# Altium schematic symbol library passive_smd.SchLib: 86 symbols
Pins are listed as number, name and electrical type; pins without a type are passive.

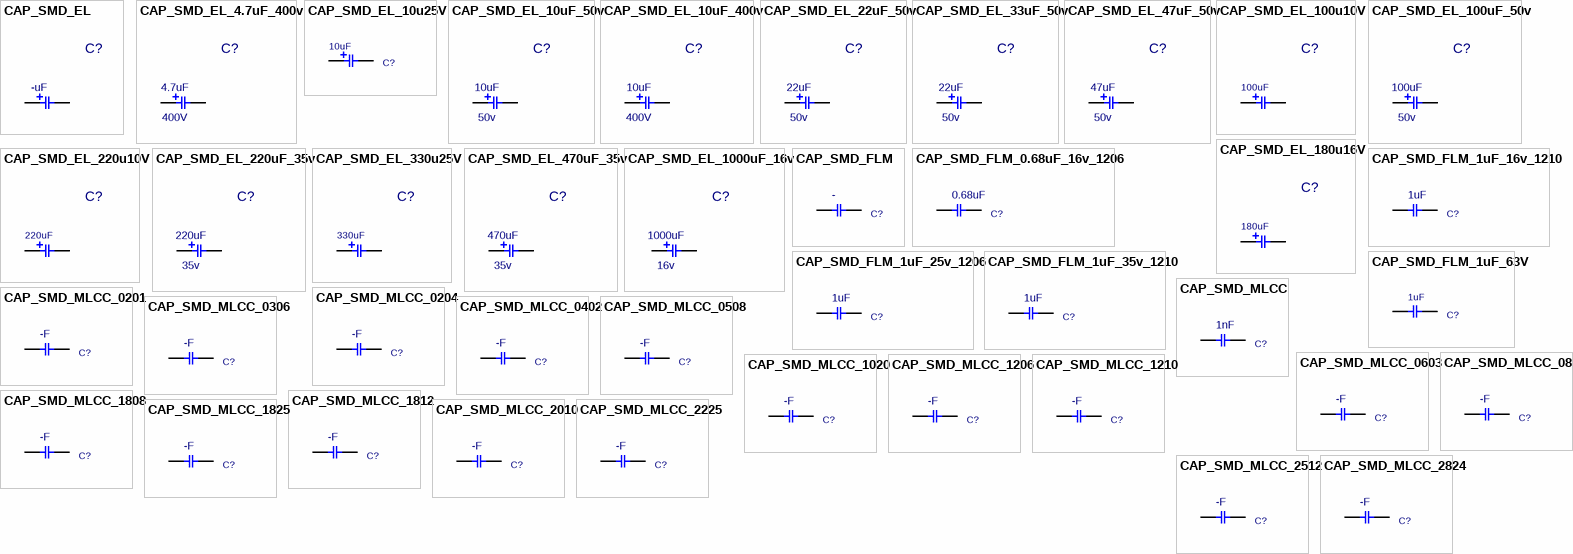
[diagram p0: symbols CAP_SMD_EL to CAP_SMD_MLCC_2824]

## CAP_SMD_EL
designator C?, comment -uF
CAP, SMD, ELEC,; MANF_P#: MANF_PART#; PARAM2: -V; DESC: DESCRIPTION; DIST#: MOUSER; PARAM: 20%; PRICE: 10= -$; MANF: MANF; ASSEMBLY: ASSEMBLY; VALUE: -uF
footprint C_EL_D8L6 (Electrolytic Cap, 8.3X6)
footprint C_EL_D4L4 (Electrolytic Cap, D: 4.3mm, Size B, 3.9mm Height)
footprint C_EL_D5L6 (Electrolytic Cap, D: 5.0mm, L: 5.8mm, Size C)
footprint C_EL_D6L5 (Electrolytic Cap, D: 6.3mm L: 5.4mm, Size D)
footprint C_EL_D10L9 (Electrolytic Cap, 10.3mm, L: 8.7mm)
footprint C_EL_D12L13 (Electrolytic Cap, 12.5x13mm)
footprint C_EL_D4L5 (Electrolytic Cap, D: 4.3mm, Size B, 5.5mm Height)
footprint C_EL_D3L5 (Electrolytic Cap, D: 3.3mm, Size A, 5mm Height)
footprint C_EL_D6L4 (Electrolytic Cap, D: 6.3mm L: 3.9mm, Size D)
footprint C_EL_D6L5A (Electrolytic Cap, D: 6.3mm L: 5.4mm, Size D)
footprint C_EL_D6L6 (Electrolytic Cap, D: 6.3mm L: 5.8mm, Size D)
footprint C_EL_D6L8 (Electrolytic Cap, D: 6.3mm L: 7.7mm, Size D)
footprint C_EL_D8L10 (Electrolytic Cap, Size E, Size F, 8.3X10)
footprint C_EL_D10L10 (Electrolytic Cap, 10.3mm, L: 10mm)
footprint C_EL_D10L12 (Electrolytic Cap, 10.3mm, L: 12.4mm)
footprint C_EL_D16L16 (Electrolytic Cap, 16x16.5mm, size J)
footprint C_EL_D18L16 (Electrolytic Cap, 18x16.5mm, size K)
footprint C_EL_D8L10A (Electrolytic Cap, Size E, Size F, 8.3X10)
footprint C_EL_D5L5 (Electrolytic Cap, D: 5.0mm, L: 5.4mm)
pins: 1, 2

## CAP_SMD_EL_4.7uF_400v
designator C?, comment PARAM2: 400V  (hidden comment: 4.7uF)
CAP, SMD, ELEC,; MANF_P#: MANF_PART#; DESC: DESCRIPTION; DIST#: MOUSER; PARAM: 20%; PRICE: 10= -$; MANF: MANF; ASSEMBLY: ASSEMBLY; VALUE: 4.7uF
footprint C_EL_D8L10 (Electrolytic Cap, Size E, Size F, 8.3X10)
footprint C_EL_D10L10 (Electrolytic Cap, 10.3mm, L: 10mm)
pins: 1, 2

## CAP_SMD_EL_10u25V
designator C?, comment 10uF
CAP, SMD, ELEC, 10uF, 25V; MANF_P#: MANF_PART#; PARAM: 25V; MANF: MANF; PARAM2: PARAM2; VALUE: 10uF
footprint C_EL_4X7 (Capacitor Electrolythic, D4.0X7.0H pitch: 1.5mm)
pins: 1, 2

## CAP_SMD_EL_10uF_50v
designator C?, comment PARAM2: 50v  (hidden comment: 10uF)
CAP, SMD, ELEC,; MANF_P#: MANF_PART#; DESC: DESCRIPTION; DIST#: MOUSER; PARAM: 20%; PRICE: 10= -$; MANF: MANF; ASSEMBLY: ASSEMBLY; VALUE: 10uF
footprint C_EL_D5L5 (Electrolytic Cap, D: 5.0mm, L: 5.4mm)
pins: 1, 2

## CAP_SMD_EL_10uF_400v
designator C?, comment PARAM2: 400V  (hidden comment: 10uF)
CAP, SMD, ELEC,; MANF_P#: MANF_PART#; DESC: DESCRIPTION; DIST#: MOUSER; PARAM: 20%; PRICE: 10= -$; MANF: MANF; ASSEMBLY: ASSEMBLY; VALUE: 10uF
footprint C_EL_D10L12 (Electrolytic Cap, 10.3mm, L: 12.4mm)
pins: 1, 2

## CAP_SMD_EL_22uF_50v
designator C?, comment PARAM2: 50v  (hidden comment: 22uF)
CAP, SMD, ELEC,; MANF_P#: MANF_PART#; DESC: DESCRIPTION; DIST#: MOUSER; PARAM: 20%; PRICE: 10= -$; MANF: MANF; ASSEMBLY: ASSEMBLY; VALUE: 22uF
footprint C_EL_D6L5 (Electrolytic Cap, D: 6.3mm L: 5.4mm, Size D)
pins: 1, 2

## CAP_SMD_EL_33uF_50v
designator C?, comment PARAM2: 50v  (hidden comment: 22uF)
CAP, SMD, ELEC,; MANF_P#: MANF_PART#; DESC: DESCRIPTION; DIST#: MOUSER; PARAM: 20%; PRICE: 10= -$; MANF: MANF; ASSEMBLY: ASSEMBLY; VALUE: 22uF
footprint C_EL_D6L8 (Electrolytic Cap, D: 6.3mm L: 7.7mm, Size D)
pins: 1, 2

## CAP_SMD_EL_47uF_50v
designator C?, comment PARAM2: 50v  (hidden comment: 47uF)
CAP, SMD, ELEC,; MANF_P#: MANF_PART#; DESC: DESCRIPTION; DIST#: MOUSER; PARAM: 20%; PRICE: 10= -$; MANF: MANF; ASSEMBLY: ASSEMBLY; VALUE: 47uF
footprint C_EL_D6L8 (Electrolytic Cap, D: 6.3mm L: 7.7mm, Size D)
pins: 1, 2

## CAP_SMD_EL_100u10V
designator C?, comment 100uF
CAP, SMDD, ELEC, 100uF, 10V; MANF_P#: 875105242010; MANF: Wurth Electronics; DESC: Aluminum Organic Polymer; DIST#: MOUSER; PARAM: 20%, 30mOhmESR, -55~105oC; PRICE: 0.56$; PARAM2: 10V; ASSEMBLY: ASSEMBLY; VALUE: 100uF
footprint C_EL_5 (Electrolytic Cap, D: 5.0mm, L: 5.8mm, Size C)
pins: 1, 2

## CAP_SMD_EL_100uF_50v
designator C?, comment PARAM2: 50v  (hidden comment: 100uF)
CAP, SMD, ELEC,; MANF_P#: MANF_PART#; DESC: DESCRIPTION; DIST#: MOUSER; PARAM: 20%; PRICE: 10= -$; MANF: MANF; ASSEMBLY: ASSEMBLY; VALUE: 100uF
footprint C_EL_D8L10 (Electrolytic Cap, Size E, Size F, 8.3X10)
pins: 1, 2

## CAP_SMD_EL_180u16V
designator C?, comment 180uF
CAP, SMD, ELEC,; MANF_P#: 16SVPE180M; PARAM2: 16V; MANF: Panasonic; DESC: Aluminum Organic Polymer; DIST#: MOUSER; PARAM: 20%, 11mOhmESR, -55~105oC; PRICE: 0.8$; ASSEMBLY: ASSEMBLY; VALUE: 180uF
footprint C_EL_6_8 (Electrolytic Cap, D: 6.3mm L: 7.7mm, Size D)
pins: 1, 2

## CAP_SMD_EL_220u10V
designator C?, comment 220uF
CAP, SMDD, ELEC, 220uF, 10V; MANF_P#: 875105244013; MANF: Wurth Electronics; DESC: Aluminum Organic Polymer; DIST#: MOUSER; PARAM: 20%, 30mOhmESR, -55~105oC; PRICE: 0.66$; PARAM2: 10V; ASSEMBLY: ASSEMBLY; VALUE: 220uF
footprint C_EL_6_6 (Electrolytic Cap, D: 6.3mm L: 5.8mm, Size D)
pins: 1, 2

## CAP_SMD_EL_220uF_35v
designator C?, comment PARAM2: 35v  (hidden comment: 220uF)
CAP, SMD, ELEC,; MANF_P#: MANF_PART#; DESC: DESCRIPTION; DIST#: MOUSER; PARAM: 20%; PRICE: 10= -$; MANF: MANF; ASSEMBLY: ASSEMBLY; VALUE: 220uF
footprint C_EL_D8L10 (Electrolytic Cap, Size E, Size F, 8.3X10)
pins: 1, 2

## CAP_SMD_EL_330u25V
designator C?, comment 330uF
CAP, SMDD, ELEC, 330uF, 25V; MANF_P#: EEE-1EA331UP; PARAM2: 20%; MANF: PANASONIC; DESC: DESCRIPTION; DIST#: MOUSER; PRICE: 10= 5$; ASSEMBLY: ASSEMBLY; PARAM: 25V; VALUE: 330uF
footprint C_EL_8 (Electrolytic Capacitor, Size E, Size F, 8X10)
pins: 1, 2

## CAP_SMD_EL_470uF_35v
designator C?, comment PARAM2: 35v  (hidden comment: 470uF)
CAP, SMD, ELEC,; MANF_P#: MANF_PART#; DESC: DESCRIPTION; DIST#: MOUSER; PARAM: 20%; PRICE: 10= -$; MANF: MANF; ASSEMBLY: ASSEMBLY; VALUE: 470uF
footprint C_EL_D10L10 (Electrolytic Cap, 10.3mm, L: 10mm)
pins: 1, 2

## CAP_SMD_EL_1000uF_16v
designator C?, comment PARAM2: 16v  (hidden comment: 1000uF)
CAP, SMD, ELEC,; MANF_P#: MANF_PART#; DESC: DESCRIPTION; DIST#: MOUSER; PARAM: 20%; PRICE: 10= -$; MANF: MANF; ASSEMBLY: ASSEMBLY; VALUE: 1000uF
footprint C_EL_D10L10 (Electrolytic Cap, 10.3mm, L: 10mm)
pins: 1, 2

## CAP_SMD_FLM
designator C?, comment -
CAP, FILM,; PARAM: Acrylic, MetallizedStacked, 20%, -40~85oC; MANF_P#: ECP-U1C684MA5; MANF: Panasonic; PARAM2: 16V; PRICE: 100= 40$; DESC: -; ASSEMBLY: ASSEMBLY; VALUE: -
footprint C1206 (CHIP Capacitor, 3.2X1.6mm, 1206)
pins: 1, 2

## CAP_SMD_FLM_0.68uF_16v_1206
designator C?, comment 0.68uF
CAP, FILM,; PARAM: Acrylic, MetallizedStacked, 20%, -40~85oC; MANF_P#: ECP-U1C684MA5; MANF: Panasonic; PARAM2: 16V; PRICE: 100= 40$; DESC: -; ASSEMBLY: ASSEMBLY; VALUE: 0.68uF
footprint C1206 (CHIP Capacitor, 3.2X1.6mm, 1206)
pins: 1, 2

## CAP_SMD_FLM_1uF_16v_1210
designator C?, comment 1uF
CAP, FILM,; PARAM: Acrylic, MetallizedStacked, 20%, -40~85oC; MANF_P#: ECP-U1C105MA5; MANF: Panasonic; PARAM2: 16V; PRICE: 100= 36$; DESC: -; ASSEMBLY: ASSEMBLY; VALUE: 1uF
footprint C1210 (CHIP Capacitor, 3.2X2.5mm, 1210, 3225)
pins: 1, 2

## CAP_SMD_FLM_1uF_25v_1206
designator C?, comment 1uF
CAP, FILM,; PARAM: AcrylicMetallized, 20%, -55~125oC; MANF_P#: 25MU105MA23216; MANF: Rubycon; PARAM2: 25V; PRICE: 100= 290$; DESC: -; ASSEMBLY: ASSEMBLY; VALUE: 1uF
footprint C1206 (CHIP Capacitor, 3.2X1.6mm, 1206)
pins: 1, 2

## CAP_SMD_FLM_1uF_35v_1210
designator C?, comment 1uF
CAP, FILM,; PARAM: AcrylicMetallized, 20%, -55~125oC; MANF_P#: 35ST105MB13225; MANF: Rubycon; PARAM2: 35V; PRICE: 100= 270$; DESC: -; ASSEMBLY: ASSEMBLY; VALUE: 1uF
footprint C1210 (CHIP Capacitor, 3.2X2.5mm, 1210, 3225)
pins: 1, 2

## CAP_SMD_FLM_1uF_63V
designator C?, comment 1uF
CAP, FILM; PARAM: PET, 10%, -55~125oC; DESC: CAP, FILM,; MANF_P#: SMDTC04100QB00KQ00; MANF: WIMA; PARAM2: 63VDC/40VAC; PRICE: 2$; ASSEMBLY: ASSEMBLY; VALUE: 1uF
footprint C2225 (Chip Capacitor, 5.6x6.4mm, 2225, 5664, 2220)
pins: 1, 2

## CAP_SMD_MLCC
designator C?, comment 1nF
CAP, MLCC; PARAM: C0G, 10%; DESC: CAP, MLCC, 1nF, 50V, C0G, 10%, 0402; MANF_P#: MANF_PART#; MANF: Murata; PARAM2: 50V; PRICE: 100= 1$; ASSEMBLY: ASSEMBLY; VALUE: 1nF
footprint C0402 (CHIP Capacitor, 1.0X0.5mm, 0402)
footprint C0603 (CHIP Capacitor, 1.6X0.8mm, 0603)
footprint C0805 (CHIP Capacitor, 2.0X1.3mm, 0805)
footprint C1206 (CHIP Capacitor, 3.2X1.6mm, 1206)
footprint C1210 (CHIP Capacitor, 3.2X2.5mm, 1210, 3225)
footprint C0508 (CHIP Capacitor, 1.3X2.0mm, 0508)
footprint C1020 (CHIP Capacitor, 2.50x5.00mm)
footprint C1808 (CHIP Capacitor, 4.6X2.0mm, 1808, 1806, 4620, 4520)
footprint C1812 (Chip Capacitor, 4.5x3.2mm, 1612, 1812, 4532)
footprint C1825 (Chip Capacitor, 4.5x6.4mm, 1825, 4564)
footprint C2225 (Chip Capacitor, 5.6x6.4mm, 2225, 5664)
footprint C2512 (Chip Capacitor, 6.4x3.2mm, 2512, 6432)
footprint C0201 (CHIP Capacitor, 0.5x0.25mm, 0201)
footprint C0306 (CHIP Capacitor, 0.8X1.6mm)
footprint C0204 (CHIP Capacitor, 0.5X1.0mm)
footprint C2010 (Chip Capacitor, 5.0x2.5mm)
pins: 1, 2

## CAP_SMD_MLCC_0201
designator C?, comment -F
CAP, MLCC; PARAM: -, -%; MANF_P#: MANF_PART#; PARAM2: -V; PRICE: 100= 1$; MANF: -; ASSEMBLY: ASSEMBLY; VALUE: -F; PACKAGE: 0201
footprint C0201 (CHIP Capacitor, 0.5x0.25mm, 0201)
pins: 1, 2

## CAP_SMD_MLCC_0204
designator C?, comment -F
CAP, MLCC; PARAM: -, -%; MANF_P#: MANF_PART#; PARAM2: -V; PRICE: 100= 1$; MANF: -; ASSEMBLY: ASSEMBLY; VALUE: -F; PACKAGE: 0204
footprint C0204 (CHIP Capacitor, 0.5X1.0mm)
pins: 1, 2

## CAP_SMD_MLCC_0306
designator C?, comment -F
CAP, MLCC; PARAM: -, -%; MANF_P#: MANF_PART#; PARAM2: -V; PRICE: 100= 1$; MANF: -; ASSEMBLY: ASSEMBLY; VALUE: -F; PACKAGE: 0306
footprint C0306 (CHIP Capacitor, 0.8X1.6mm)
pins: 1, 2

## CAP_SMD_MLCC_0402
designator C?, comment -F
CAP, MLCC; PARAM: -, -%; MANF_P#: MANF_PART#; PARAM2: -V; PRICE: 100= 1$; MANF: -; ASSEMBLY: ASSEMBLY; VALUE: -F; PACKAGE: 0402
footprint C0402 (CHIP Capacitor, 1.0X0.5mm, 0402)
pins: 1, 2

## CAP_SMD_MLCC_0508
designator C?, comment -F
CAP, MLCC; PARAM: -, -%; MANF_P#: MANF_PART#; PARAM2: -V; PRICE: 100= 1$; MANF: -; ASSEMBLY: ASSEMBLY; VALUE: -F; PACKAGE: 0508
footprint C0508 (CHIP Capacitor, 1.3X2.0mm, 0508)
pins: 1, 2

## CAP_SMD_MLCC_0603
designator C?, comment -F
CAP, MLCC; PARAM: -, -%; MANF_P#: MANF_PART#; PARAM2: -V; PRICE: 100= 1$; MANF: -; ASSEMBLY: ASSEMBLY; VALUE: -F; PACKAGE: 0603
footprint C0603 (CHIP Capacitor, 1.6X0.8mm, 0603)
pins: 1, 2

## CAP_SMD_MLCC_0805
designator C?, comment -F
CAP, MLCC; PARAM: -, -%; MANF_P#: MANF_PART#; PARAM2: -V; PRICE: 100= 1$; MANF: -; ASSEMBLY: ASSEMBLY; VALUE: -F; PACKAGE: 0805
footprint C0805 (CHIP Capacitor, 2.0X1.3mm, 0805)
pins: 1, 2

## CAP_SMD_MLCC_1020
designator C?, comment -F
CAP, MLCC; PARAM: -, -%; MANF_P#: MANF_PART#; PARAM2: -V; PRICE: 100= 1$; MANF: -; ASSEMBLY: ASSEMBLY; VALUE: -F; PACKAGE: 1020
footprint C1020 (CHIP Capacitor, 2.50x5.00mm)
pins: 1, 2

## CAP_SMD_MLCC_1206
designator C?, comment -F
CAP, MLCC; PARAM: -, -%; MANF_P#: MANF_PART#; PARAM2: -V; PRICE: 100= 1$; MANF: -; ASSEMBLY: ASSEMBLY; VALUE: -F; PACKAGE: 1206
footprint C1206 (CHIP Capacitor, 3.2X1.6mm, 1206)
pins: 1, 2

## CAP_SMD_MLCC_1210
designator C?, comment -F
CAP, MLCC; PARAM: -, -%; MANF_P#: MANF_PART#; PARAM2: -V; PRICE: 100= 1$; MANF: -; ASSEMBLY: ASSEMBLY; VALUE: -F; PACKAGE: 1210
footprint C1210 (CHIP Capacitor, 3.2X2.5mm, 1210, 3225)
pins: 1, 2

## CAP_SMD_MLCC_1808
designator C?, comment -F
CAP, MLCC; PARAM: -, -%; MANF_P#: MANF_PART#; PARAM2: -V; PRICE: 100= 1$; MANF: -; ASSEMBLY: ASSEMBLY; VALUE: -F; PACKAGE: 1808
footprint C1808 (CHIP Capacitor, 4.6X2.0mm, 1808, 1806, 4620, 4520)
pins: 1, 2

## CAP_SMD_MLCC_1812
designator C?, comment -F
CAP, MLCC; PARAM: -, -%; MANF_P#: MANF_PART#; PARAM2: -V; PRICE: 100= 1$; MANF: -; ASSEMBLY: ASSEMBLY; VALUE: -F; PACKAGE: 1812
footprint C1812 (Chip Capacitor, 4.5x3.2mm, 1612, 1812, 4532)
pins: 1, 2

## CAP_SMD_MLCC_1825
designator C?, comment -F
CAP, MLCC; PARAM: -, -%; MANF_P#: MANF_PART#; PARAM2: -V; PRICE: 100= 1$; MANF: -; ASSEMBLY: ASSEMBLY; VALUE: -F; PACKAGE: 1825
footprint C1825 (Chip Capacitor, 4.5x6.4mm, 1825, 4564)
pins: 1, 2

## CAP_SMD_MLCC_2010
designator C?, comment -F
CAP, MLCC; PARAM: -, -%; MANF_P#: MANF_PART#; PARAM2: -V; PRICE: 100= 1$; MANF: -; ASSEMBLY: ASSEMBLY; VALUE: -F; PACKAGE: 2010
footprint C2010 (Chip Capacitor, 5.0x2.5mm)
pins: 1, 2

## CAP_SMD_MLCC_2225
designator C?, comment -F
CAP, MLCC; PARAM: -, -%; MANF_P#: MANF_PART#; PARAM2: -V; PRICE: 100= 1$; MANF: -; ASSEMBLY: ASSEMBLY; VALUE: -F; PACKAGE: 2225
footprint C2225 (Chip Capacitor, 5.6x6.4mm, 2225, 5664, 2220)
pins: 1, 2

## CAP_SMD_MLCC_2512
designator C?, comment -F
CAP, MLCC; PARAM: -, -%; MANF_P#: MANF_PART#; PARAM2: -V; PRICE: 100= 1$; MANF: -; ASSEMBLY: ASSEMBLY; VALUE: -F; PACKAGE: 2512
footprint C2512 (Chip Capacitor, 6.4x3.2mm, 2512, 6432)
pins: 1, 2

## CAP_SMD_MLCC_2824
designator C?, comment -F
CAP, MLCC; PARAM: -, -%; MANF_P#: MANF_PART#; PARAM2: -V; PRICE: 100= 1$; MANF: -; ASSEMBLY: ASSEMBLY; VALUE: -F; PACKAGE: 2824
footprint C2824 (Chip Capacitor, 7.2x6.1x3mm, 2824)
pins: 1, 2

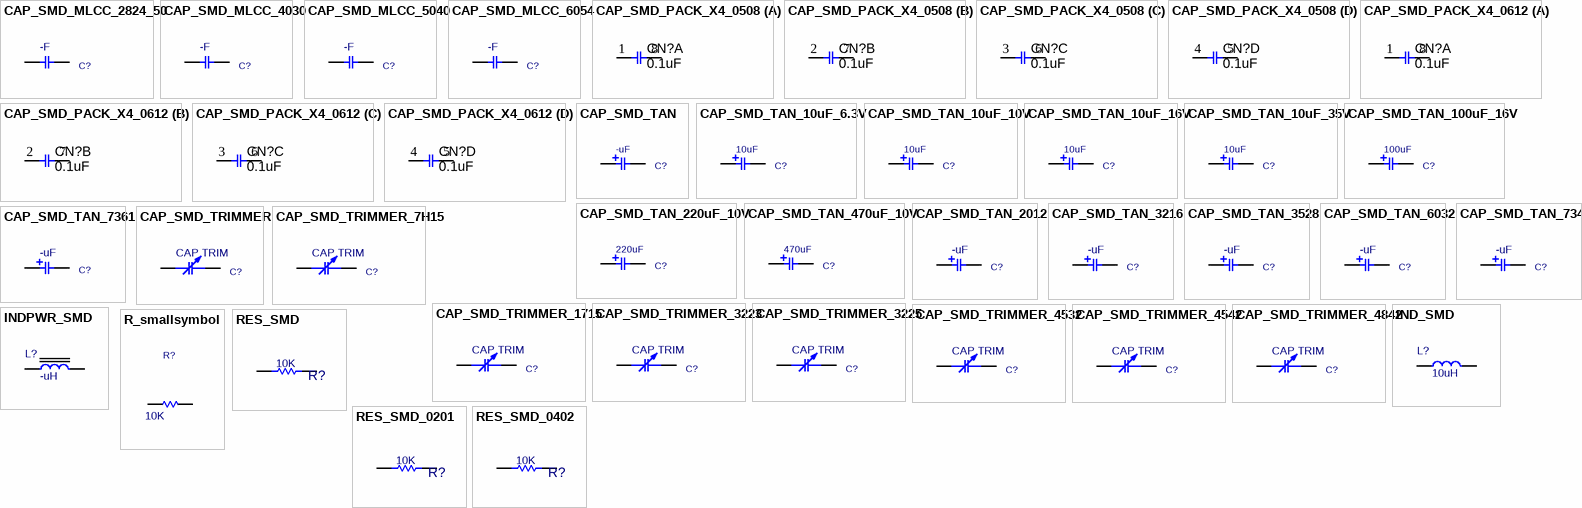
[diagram p1: symbols CAP_SMD_MLCC_2824_50 to RES_SMD_0402]

## CAP_SMD_MLCC_2824_50
designator C?, comment -F
CAP, MLCC; PARAM: -, -%; MANF_P#: MANF_PART#; PARAM2: -V; PRICE: 100= 1$; MANF: -; ASSEMBLY: ASSEMBLY; PACKAGE: 2824_5mm height; VALUE: -F
footprint C2824_50 (Chip Capacitor, 7.2x6.1x5mm, 2824)
pins: 1, 2

## CAP_SMD_MLCC_4030
designator C?, comment -F
CAP, MLCC; PARAM: -, -%; MANF_P#: MANF_PART#; PARAM2: -V; PRICE: 100= 1$; MANF: -; ASSEMBLY: ASSEMBLY; VALUE: -F; PACKAGE: 4030
footprint C4030 (Chip Capacitor, 10.2x7.6x5mm, 4030)
pins: 1, 2

## CAP_SMD_MLCC_5040
designator C?, comment -F
CAP, MLCC; PARAM: -, -%; MANF_P#: MANF_PART#; PARAM2: -V; PRICE: 100= 1$; MANF: -; ASSEMBLY: ASSEMBLY; VALUE: -F; PACKAGE: 5040
footprint C5040 (Chip Capacitor, 12.7x10.2x6mm, 5040)
pins: 1, 2

## CAP_SMD_MLCC_6054
designator C?, comment -F
CAP, MLCC; PARAM: -, -%; MANF_P#: MANF_PART#; PARAM2: -V; PRICE: 100= 1$; MANF: -; ASSEMBLY: ASSEMBLY; VALUE: -F; PACKAGE: 6054
footprint C6054 (Chip Capacitor, 15.3x13.7x7mm, 6054)
pins: 1, 2

## CAP_SMD_PACK_X4_0508
designator CN?, comment value 0.1uF  (hidden comment: Film Res Pack)
CAP, SMD, PACKX4; MANF_P#: MANF_PART#; MANF: MANF
footprint CP0402X4 (Capacitor Network, 0508, 0402X4, 1.3x2.0mm)
part A pins: 1, 8
part B pins: 2, 7
part C pins: 3, 6
part D pins: 4, 5

## CAP_SMD_PACK_X4_0612
designator CN?, comment value 0.1uF  (hidden comment: Film Res Pack)
CAP, SMD, PACKX4; MANF_P#: MANF_PART#; MANF: MANF
footprint CP0603X4 (Capacitor Network 0612, 0603X4, 1.6x3.2mm)
part A pins: 1, 8
part B pins: 2, 7
part C pins: 3, 6
part D pins: 4, 5

## CAP_SMD_TAN
designator C?, comment -uF
CAP, SMD, TAN; PARAM: 20%, 300mOhm, -55~105oC; MANF: VISHAY; MANF_P#: T55A106M6R3C0300; PARAM2: 6.3V; PRICE: 0.46$; VALUE: -uF
footprint C_TN_3528 (CAPACITOR, TAN B, TAN H, TAN T, TAN M, 3528P, 1210P, 3.5X2.8mm)
footprint C_TN_3216 (CAPACITOR, TAN A, 1206P, 3.2x1.6mm)
footprint C_TN_2012 (CAPACITOR, TAN N, TAN P, TAN R, 0805P, 2X1.3mm)
footprint C_TN_3216_BLK (CAPACITOR, TAN A, 3.2x1.6mm, BLACK)
footprint C_TN_3528_BLK (CAPACITOR, TAN B, 3.5X2.8mm, BLACK)
footprint C_TN_6032 (CAPACITOR, TAN C, TAN F, TAN U, TAN L, 6032P, 6.0X3.2mm)
footprint C_TN_6032_BLK (CAPACITOR, TAN C, 6.0X3.2mm, BLACK)
footprint C_TN_7343 (CAPACITOR, TAN D, TAN E, TAN Y, TAN X, 7343P, 7.3X4.3mm)
footprint C_TN_7343_31 (CAPACITOR, TAN D, TAN E, TAN Y, TAN X, 7343P, 7.3X4.3mm)
footprint C_TN_7343_31_BLK (CAPACITOR, TAN D, 7.3X4.3mm, BLACK)
footprint C_TN_7361 (CAPACITOR, TAN V, 2924, 7361, 7.3X6.1mm)
pins: 1, 2

## CAP_SMD_TAN_10uF_6.3V
designator C?, comment 10uF
CAP, SMD, TAN; PARAM: 20%, 300mOhm, -55~105oC; MANF: VISHAY; MANF_P#: T55A106M6R3C0300; PARAM2: 6.3V; PRICE: 0.46$; VALUE: 10uF
footprint C_TN_3216 (CAPACITOR, TAN A, 1206P, 3.2x1.6mm)
pins: 1, 2

## CAP_SMD_TAN_10uF_10V
designator C?, comment 10uF
CAP, SMD, TAN; PARAM: 20%, 300mOhm, -55~105oC; MANF: VISHAY; MANF_P#: T55A106M010C0300; PARAM2: 10V; PRICE: 0.46$; VALUE: 10uF
footprint C_TN_3216 (CAPACITOR, TAN A, 1206P, 3.2x1.6mm)
pins: 1, 2

## CAP_SMD_TAN_10uF_16V
designator C?, comment 10uF
CAP, SMD, TAN; PARAM: 20%, 200mOhm, -55~105oC; MANF: AVX; MANF_P#: TCJT106M016R0200; PARAM2: 16V; PRICE: 1$; VALUE: 10uF
footprint C_TN_3528 (CAPACITOR, TAN B, TAN H, TAN T, TAN M, 3528P, 1210P, 3.5X2.8mm)
pins: 1, 2

## CAP_SMD_TAN_10uF_35V
designator C?, comment 10uF
CAP, SMD, TAN; PARAM: 20%, 300mOhm, -55~125oC; MANF: VISHAY; MANF_P#: 593D106X9035D2TE3; PARAM2: 35V; PRICE: 0.8$; VALUE: 10uF
footprint C_TN_7343 (CAPACITOR, TAN D, TAN E, TAN Y, TAN X, 7343P, 7.3X4.3mm)
pins: 1, 2

## CAP_SMD_TAN_100uF_16V
designator C?, comment 100uF
CAP, SMD, TAN; PARAM: 20%, 50mOhm, -55~105oC; MANF: AVX; MANF_P#: TCJD107M016R0050; PARAM2: 16V; PRICE: 1.9$; VALUE: 100uF
footprint C_TN_7343 (CAPACITOR, TAN D, TAN E, TAN Y, TAN X, 7343P, 7.3X4.3mm)
pins: 1, 2

## CAP_SMD_TAN_220uF_10V
designator C?, comment 220uF
CAP, SMD, TAN; PARAM: 20%, 35mOhm, -55~105oC; MANF: VISHAY; MANF_P#: T55D227M6R3C0035; PARAM2: 6.3V; PRICE: 1.9$; VALUE: 220uF
footprint C_TN_7343 (CAPACITOR, TAN D, TAN E, TAN Y, TAN X, 7343P, 7.3X4.3mm)
pins: 1, 2

## CAP_SMD_TAN_470uF_10V
designator C?, comment 470uF
CAP, SMD, TAN; PARAM: 20%, 50mOhm, -55~105oC; MANF: AVX; MANF_P#: TCN4477M016R0100; PARAM2: 16V; PRICE: 4$; VALUE: 470uF
footprint C_TN_7343 (CAPACITOR, TAN D, TAN E, TAN Y, TAN X, 7343P, 7.3X4.3mm)
pins: 1, 2

## CAP_SMD_TAN_2012
designator C?, comment -uF
CAP, SMD, TAN,; PARAM2: -V; VALUE: -uF; PACKAGE: 2012
footprint C_TN_2012 (CAPACITOR, TAN N, TAN P, TAN R, 0805P, 2X1.3mm)
pins: 1, 2

## CAP_SMD_TAN_3216
designator C?, comment -uF
CAP, SMD, TAN,; PARAM2: -V; VALUE: -uF; PACKAGE: 3216
footprint C_TN_3216 (CAPACITOR, TAN A, 1206P, 3.2x1.6mm)
pins: 1, 2

## CAP_SMD_TAN_3528
designator C?, comment -uF
CAP, SMD, TAN,; PARAM2: -V; VALUE: -uF; PACKAGE: 3528
footprint C_TN_3528 (CAPACITOR, TAN B, TAN H, TAN T, TAN M, 3528P, 1210P, 3.5X2.8mm)
pins: 1, 2

## CAP_SMD_TAN_6032
designator C?, comment -uF
CAP, SMD, TAN,; PARAM2: -V; VALUE: -uF; PACKAGE: 6032
footprint C_TN_6032 (CAPACITOR, TAN C, TAN F, TAN U, TAN L, 6032P, 6.0X3.2mm)
pins: 1, 2

## CAP_SMD_TAN_7343
designator C?, comment -uF
CAP, SMD, TAN,; PARAM2: -V; VALUE: -uF; PACKAGE: 7343
footprint C_TN_7343 (CAPACITOR, TAN D, TAN E, TAN Y, TAN X, 7343P, 7.3X4.3mm)
pins: 1, 2

## CAP_SMD_TAN_7361
designator C?, comment -uF
CAP, SMD, TAN,; PARAM2: -V; VALUE: -uF; PACKAGE: 7361
footprint C_TN_7361 (CAPACITOR, TAN V, 2924, 7361, 7.3X6.1mm)
pins: 1, 2

## CAP_SMD_TRIMMER
designator C?, comment CAP TRIM
CAP, SMD, TRIMMER; MANF_P#: MANF_PART#; PARAM: PARAM; PRICE: 100= 1$; DESC: CAP, SMD, TRIMMER; MANF: MANF; PARAM2: PARAM2; ASSEMBLY: ASSEMBLY; VALUE: CAP TRIM
footprint C_TRM_1715 (Cap, Trimmer TZR1 1.7mmX1.5mm)
footprint C_TRM_3225 (Cap, Trimmer TZY2 3.2mmX2.5mm)
footprint C_TRM_4532 (Cap, Trimmer TZC3 4.5X3.2mm)
footprint C_TRM_4842 (Cap, Trimmer SMD 4.8x4.2mm)
footprint C_TRM_3223 (Cap, Trimmer TZV2 2.3mmX3.2mm)
footprint C_TRM_4542 (Cap, Trimmer TZB4 4.5X4.2mm)
footprint C_TRM_7H15 (Cap Air, Trimmer JOHANSON 1585, >8 Turn, 7.1x H 14.8mm)
pins: 1, 2

## CAP_SMD_TRIMMER_7H15
designator C?, comment CAP TRIM
CAP, SMD, TRIMMER; MANF_P#: MANF_PART#; PARAM: PARAM; PRICE: 100= 1$; DESC: CAP, SMD, TRIMMER; MANF: MANF; PARAM2: PARAM2; ASSEMBLY: ASSEMBLY; VALUE: CAP TRIM
footprint C_TRM_7H15 (Cap Air, Trimmer JOHANSON 1585, >8 Turn, 7.1x H 14.8mm)
pins: 1, 2

## CAP_SMD_TRIMMER_1715
designator C?, comment CAP TRIM
CAP, SMD, TRIMMER; MANF_P#: MANF_PART#; PARAM: PARAM; PRICE: 100= 1$; DESC: CAP, SMD, TRIMMER; MANF: MANF; PARAM2: PARAM2; ASSEMBLY: ASSEMBLY; VALUE: CAP TRIM
footprint C_TRM_1715 (Cap, Trimmer TZR1 1.7mmX1.5mm)
pins: 1, 2

## CAP_SMD_TRIMMER_3223
designator C?, comment CAP TRIM
CAP, SMD, TRIMMER; MANF_P#: MANF_PART#; PARAM: PARAM; PRICE: 100= 1$; DESC: CAP, SMD, TRIMMER; MANF: MANF; PARAM2: PARAM2; ASSEMBLY: ASSEMBLY; VALUE: CAP TRIM
footprint C_TRM_3223 (Cap, Trimmer TZV2 2.3mmX3.2mm)
pins: 1, 2

## CAP_SMD_TRIMMER_3225
designator C?, comment CAP TRIM
CAP, SMD, TRIMMER; MANF_P#: MANF_PART#; PARAM: PARAM; PRICE: 100= 1$; DESC: CAP, SMD, TRIMMER; MANF: MANF; PARAM2: PARAM2; ASSEMBLY: ASSEMBLY; VALUE: CAP TRIM
footprint C_TRM_3225 (Cap, Trimmer TZY2 3.2mmX2.5mm)
pins: 1, 2

## CAP_SMD_TRIMMER_4532
designator C?, comment CAP TRIM
CAP, SMD, TRIMMER; MANF_P#: MANF_PART#; PARAM: PARAM; PRICE: 100= 1$; DESC: CAP, SMD, TRIMMER; MANF: MANF; PARAM2: PARAM2; ASSEMBLY: ASSEMBLY; VALUE: CAP TRIM
footprint C_TRM_4532 (Cap, Trimmer TZC3 4.5X3.2mm)
pins: 1, 2

## CAP_SMD_TRIMMER_4542
designator C?, comment CAP TRIM
CAP, SMD, TRIMMER; MANF_P#: MANF_PART#; PARAM: PARAM; PRICE: 100= 1$; DESC: CAP, SMD, TRIMMER; MANF: MANF; PARAM2: PARAM2; ASSEMBLY: ASSEMBLY; VALUE: CAP TRIM
footprint C_TRM_4542 (Cap, Trimmer TZB4 4.5X4.2mm)
pins: 1, 2

## CAP_SMD_TRIMMER_4842
designator C?, comment CAP TRIM
CAP, SMD, TRIMMER; MANF_P#: MANF_PART#; PARAM: PARAM; PRICE: 100= 1$; DESC: CAP, SMD, TRIMMER; MANF: MANF; PARAM2: PARAM2; ASSEMBLY: ASSEMBLY; VALUE: CAP TRIM
footprint C_TRM_4842 (Cap, Trimmer SMD 4.8x4.2mm)
pins: 1, 2

## IND_SMD
designator L?, comment 10uH
INDUCTOR, SMD; VALUE: 10uH
footprint L0603 (INDUCTOR, FERRITE BEAD, 0603, 1.6X0.8mm)
pins: 1, 2

## INDPWR_SMD
designator L?, comment -uH
INDUCTOR, POWER, SMD; VALUE: -uH
footprint L_12 (INDUCTOR, 13.5x12.5mm, DR125, CDRH127, D128C 931AS)
footprint L_3 (INDUCTOR, 3.0X3.2mm, VLS3012)
footprint L_4 (INDUCTOR, 3.8x3.8mm, 3.7x3.5mm, WURTH 744031470)
footprint L_5 (INDUCTOR, 5.0X5.0mm)
footprint L_6 (INDUCTOR, 6.0X6.0mm)
footprint L_7 (INDUCTOR, 7.2X6.9mm, 7.1X6.5mm, SPM6530)
footprint L_8 (INDUCTOR, 7.5X7.5mm, 8x8, DR74)
footprint L_10 (INDUCTOR, 10.35X10.35mm, CDRH104R, MSS1038 (coilcraft))
footprint L_2 (INDUCTOR, 2.0X2.0mm)
footprint L1007 (INDUCTOR, 2518 [1007], 2.5X1.8mm)
footprint L1008 (INDUCTOR, 2520 1008, 2.5X2.0mm)
footprint L_5_CD54 (INDUCTOR, 5.2x5.8x4.5mm)
pins: 1, 2

## R_smallsymbol
designator R?, comment 10K
VALUE: 10K
pins: 1, 2

## RES_SMD
designator R?, comment 10K
RESISTOR, SMD; PARAM: -W; DESC: DESCRIPTION; DIST#: MOUSER; PARAM2: 1%; MANF_P#: -; MANF: -; ASSEMBLY: ASSEMBLY; PRICE: 100= 0.5$; VALUE: 10K
footprint R0402 (CHIP Resistor 1/16 WATT, 1.0X0.5mm, 0402, 1005)
footprint R0603 (CHIP Resistor 1/10 WATT, 1.6x0.8mm, 0603, 1608)
footprint R0805 (CHIP RESISTOR 1/8 WATT ,2.0X1.3mm, 0805, 2012)
footprint R1206 (CHIP RESISTOR 1/4 WATT, Body 3.2x1.6mm,1206, 3216)
footprint R2512 (CHIP RESISTOR 1 WATT, 6.4X3.2mm, 2512, 6432)
footprint R2010 (CHIP RESISTOR 3/4 WATT, 5.1x3mm, 2010, 5025)
footprint R1210 (CHIP RESISTOR 1/2 WATT, Body 3.2x2.5mm,1210, 3225)
footprint R0201 (CHIP Capacitor, 0.5x0.25mm, 0201)
pins: 1, 2

## RES_SMD_0201
designator R?, comment 10K
RESISTOR, SMD; PARAM: 1%, 50mW; DESC: DESCRIPTION; DIST#: MOUSER; MANF_P#: -; MANF: -; ASSEMBLY: ASSEMBLY; PRICE: -; PARAM2: -; VALUE: 10K; PACKAGE: 0201
footprint R0201 (CHIP Capacitor, 0.5x0.25mm, 0201)
pins: 1, 2

## RES_SMD_0402
designator R?, comment 10K
RESISTOR, SMD; PARAM: 1%, 62.5mW; DESC: DESCRIPTION; DIST#: MOUSER; MANF_P#: -; MANF: -; ASSEMBLY: ASSEMBLY; PRICE: -; PARAM2: -; VALUE: 10K; PACKAGE: 0402
footprint R0402 (CHIP Resistor 1/16 WATT, 1.0X0.5mm, 0402, 1005)
pins: 1, 2

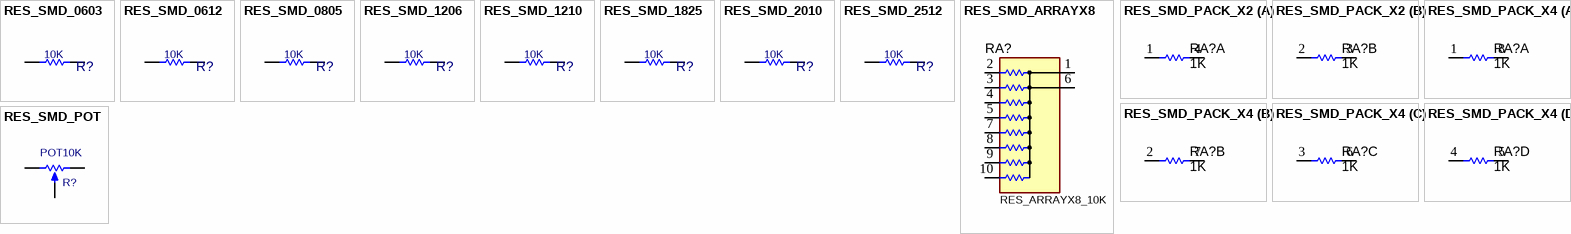
[diagram p2: symbols RES_SMD_0603 to RES_SMD_POT]

## RES_SMD_0603
designator R?, comment 10K
RESISTOR, SMD; PARAM: 1%, 0.1W; DESC: DESCRIPTION; DIST#: MOUSER; MANF_P#: -; MANF: -; ASSEMBLY: ASSEMBLY; PRICE: -; PARAM2: -; VALUE: 10K; PACKAGE: 0603
footprint R0603 (CHIP Resistor 1/10 WATT, 1.6x0.8mm, 0603, 1608)
pins: 1, 2

## RES_SMD_0612
designator R?, comment 10K
RESISTOR, SMD; PARAM: 1%, 0.25W; DESC: DESCRIPTION; DIST#: MOUSER; MANF_P#: -; MANF: -; ASSEMBLY: ASSEMBLY; PRICE: 100= 0.5$; PARAM2: -; VALUE: 10K; PACKAGE: 0612
footprint R0612 (CHIP RESISTOR 1/4 WATT, Body 1.6x3.2mm, 1632, 0612)
pins: 1, 2

## RES_SMD_0805
designator R?, comment 10K
RESISTOR, SMD; PARAM: -W; DESC: DESCRIPTION; DIST#: MOUSER; PARAM2: 1%; MANF_P#: -; MANF: -; ASSEMBLY: ASSEMBLY; PRICE: 100= 0.5$; VALUE: 10K; PACKAGE: 0805
footprint R0805 (CHIP RESISTOR 1/8 WATT ,2.0X1.3mm, 0805, 2012)
pins: 1, 2

## RES_SMD_1206
designator R?, comment 10K
RESISTOR, SMD; PARAM: 1%, 0.25W; DESC: DESCRIPTION; DIST#: MOUSER; MANF_P#: -; MANF: -; ASSEMBLY: ASSEMBLY; PRICE: -; PARAM2: -; VALUE: 10K; PACKAGE: 1206
footprint R1206 (CHIP RESISTOR 1/4 WATT, Body 3.2x1.6mm,1206, 3216)
pins: 1, 2

## RES_SMD_1210
designator R?, comment 10K
RESISTOR, SMD; PARAM: 1%, 0.5W; DESC: DESCRIPTION; DIST#: MOUSER; MANF_P#: -; MANF: -; ASSEMBLY: ASSEMBLY; PRICE: 100= 0.5$; PARAM2: -; VALUE: 10K; PACKAGE: 1210
footprint R1210 (CHIP RESISTOR 1/2 WATT, Body 3.2x2.5mm,1210, 3225)
pins: 1, 2

## RES_SMD_1825
designator R?, comment 10K
RESISTOR, SMD; PARAM: -W; DESC: DESCRIPTION; DIST#: MOUSER; MANF_P#: -; MANF: -; ASSEMBLY: ASSEMBLY; PRICE: -; PARAM2: -; VALUE: 10K; PACKAGE: 1825
footprint R1825 (CHIP Resistor, 5.1x3.0mm, 4.6X6.4mm, 1825, 4565)
pins: 1, 2

## RES_SMD_2010
designator R?, comment 10K
RESISTOR, SMD; PARAM: 1%, 0.75W; DESC: DESCRIPTION; DIST#: MOUSER; MANF_P#: -; MANF: -; ASSEMBLY: ASSEMBLY; PRICE: -; PARAM2: -; VALUE: 10K; PACKAGE: 2010
footprint R2010 (CHIP RESISTOR 3/4 WATT, 5.1x3mm, 2010, 5025)
pins: 1, 2

## RES_SMD_2512
designator R?, comment 10K
RESISTOR, SMD; PARAM: 1%, 1W; DESC: DESCRIPTION; DIST#: MOUSER; MANF_P#: -; MANF: -; ASSEMBLY: ASSEMBLY; PRICE: -; PARAM2: -; VALUE: 10K; PACKAGE: 2512
footprint R2512 (CHIP RESISTOR 1 WATT, 6.4X3.2mm, 2512, 6432)
pins: 1, 2

## RES_SMD_ARRAYX8
designator RA?, comment RES_ARRAYX8_10K
RESISTOR, SMD, ARRAYX8,; MANF: Panasonic - ECG; MANF_P#: EXB-E10C103J; PARAM2: 5%; Value: RES_ARRAYX8_10K
footprint RARRX8_4021 (Resistor ARRAY X8, SMD, 4.0x2.1mm)
pins: 1 COM, 2, 3, 4, 5, 6 COM, 7, 8, 9, 10

## RES_SMD_PACK_X2
designator RA?, comment 1K
RESISTOR, SMD, PACKX4; MANF_P#: EXBV4V, 742C043; MANF: MANF; Value: 1K
footprint RP0603X2 (RPACK, 0603X2, 742C043, EXBV4V)
part A pins: 1, 4
part B pins: 2, 3

## RES_SMD_PACK_X4
designator RA?, comment 1K
RESISTOR, SMD, PACKX4; MANF_P#: MANF_PART#; MANF: MANF; Value: 1K
footprint RP0603X4 (RPACK, 0603X4, 160X80X4 1206)
footprint RP0402X4 (RPACK, 0804, 0402X4, 100X50X4, 2.00x1.00mm)
part A pins: 1, 8
part B pins: 2, 7
part C pins: 3, 6
part D pins: 4, 5

## RES_SMD_POT
designator R?, comment POT10K
RESISTOR, SMD, Potentiometer; VALUE: POT10K
footprint POTS_3MM (POT SMD, 3.0X3.0mm, Trimming PVG3A PVZ3A)
footprint POTS_3214W (POT SMD, 4.0X5.0mm, Trimming SM-42/43W 3214W)
footprint POTS_3314G (POT SMD, 5.0X5.0mm, Trimming, 3314G)
footprint POTS_5MM (POT SMD, 5.0X5.0mm, Trimming PVG5H)
pins: 1 TOP, 2 TAP, 3 BOT